# Altium schematic symbol library GC9A01-LCD.SchLib: 1 symbol
Pins are listed as number, name and electrical type; pins without a type are passive.

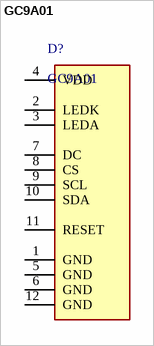
[diagram p0: symbol GC9A01]

## GC9A01
designator D?
240×240, General 1.28inch Round LCD Display Module, 65K RGB
footprint BARE-SCREEN
footprint WAVESHARE-MODULE
footprint BARE-SCREEN-VERTICAL-1
footprint BARE-SCREEN-VERTICAL-2
pins: 1 GND, 2 LEDK, 3 LEDA, 4 VDD, 5 GND, 6 GND, 7 DC, 8 CS, 9 SCL, 10 SDA, 11 RESET, 12 GND